# Altium schematic symbol library 10132798-012100LF.SchLib: 1 symbol
Pins are listed as number, name and electrical type; pins without a type are passive.

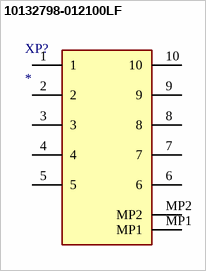
[diagram p0: symbol 10132798-012100LF]

## 10132798-012100LF
designator XP?
Connector; Manufacturer: Amphenol; Part Number: 10132798-012100LF; Datasheet Link: https://cdn.amphenol-cs.com/media/wysiwyg/files/drawing/10132798.pdf; Height - Seated (Max): 2.85mm; Mouser Part Number: 649-10132798012100LF; Mouser Price/Stock: https://www.mouser.co.uk/ProductDetail/Amphenol-FCI/10132798-012100LF?qs=I7Pni6MRMHFMCndWJbZ96A%3D%3D; Arrow Part Number: 10132798-012100LF; Arrow Price/Stock: https://www.arrow.com/en/products/10132798-012100lf/amphenol-fci?region=nac
footprint 10132798012100LF
pins: 1, 2, 3, 4, 5, 6, 7, 8, 9, 10, MP1, MP2